# EAGLE library part ACS714 (library n39)
ACS714 Automotive Grade, Fully Integrated, Hall Effect-Based Linear Current Sensor IC with 2.1 kVRMS Voltage Isolation and a Low-Resistance Current Conductor Autor: Tux
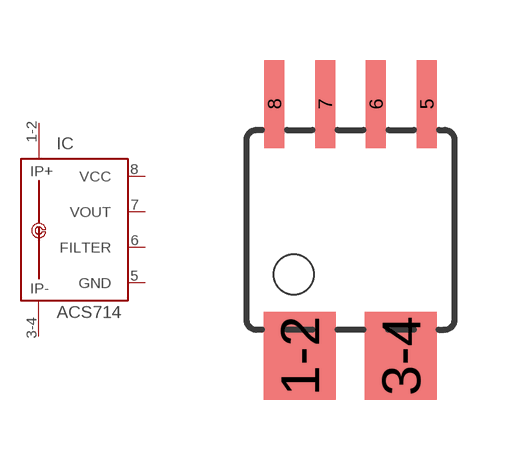
[diagram p7: symbol with the pads of ACS714; footprint ACS714]

Designator prefix IC

## ACS714  [ACS714]
1-2  IP+  pas
3-4  IP-  pas
5  GND  pwr
6  FILTER  pas
7  VOUT  out
8  VCC  pwr

## Footprint ACS714 (pad centres in mm)
ACS714 optimized SOIC8 package
smd 1.8 x 2.2: 1-2 -1.27,-3.154; 3-4 1.26,-3.154
smd 0.5 x 2.2: 5 1.905,3.154; 6 0.635,3.154; 7 -0.635,3.154; 8 -1.905,3.154